# EAGLE library part MAX3218EAP+T (library circuit_tree)
IC
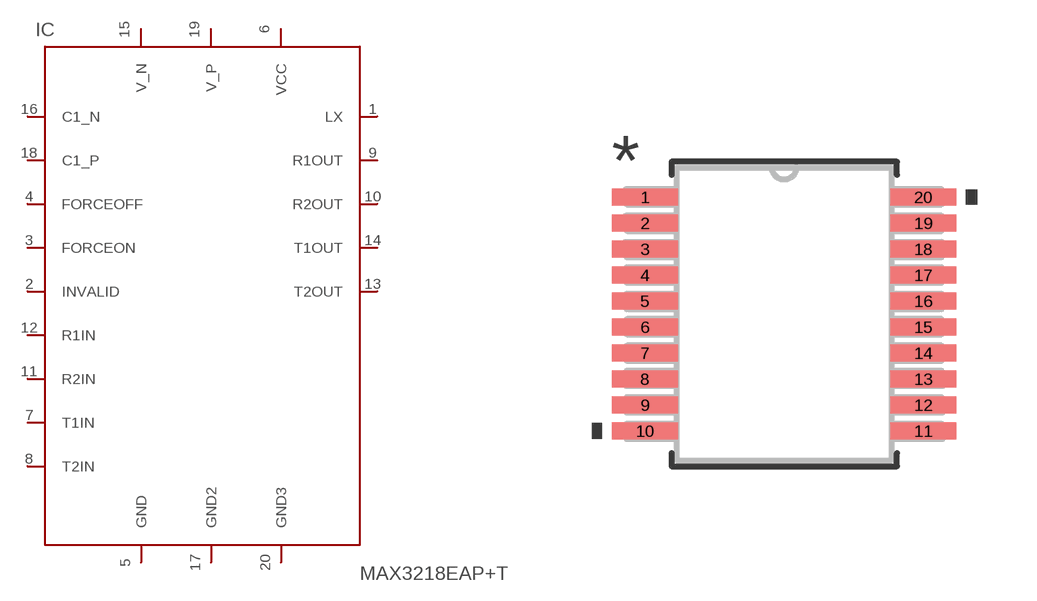
[diagram p8: symbol with the pads of SSOP-20; footprint SSOP-20]

Designator prefix IC

## MAX3218EAP+T  [SSOP-20]
1  LX  pas
2  INVALID  pas
3  FORCEON  pas
4  FORCEOFF  pas
5  GND  pas
6  VCC  pas
7  T1IN  pas
8  T2IN  pas
9  R1OUT  pas
10  R2OUT  pas
11  R2IN  pas
12  R1IN  pas
13  T2OUT  pas
14  T1OUT  pas
15  V_N  pas
16  C1_N  pas
17  GND2  pas
18  C1_P  pas
19  V_P  pas
20  GND3  pas

## Footprint SSOP-20 (pad centres in mm)
smd 1.651 x 0.432: 1 -3.48,2.925; 2 -3.48,2.275; 3 -3.48,1.625; 4 -3.48,0.975; 5 -3.48,0.325; 6 -3.48,-0.325; 7 -3.48,-0.975; 8 -3.48,-1.625; 9 -3.48,-2.275; 10 -3.48,-2.925; 11 3.48,-2.925; 12 3.48,-2.275; 13 3.48,-1.625; 14 3.48,-0.975; 15 3.48,-0.325; 16 3.48,0.325; 17 3.48,0.975; 18 3.48,1.625; 19 3.48,2.275; 20 3.48,2.925